# Altium footprint library Xtal_PcbLib.PcbLib: 8 footprints
Each footprint in its own frame and in the unit in brackets; x right, y up, seen from the top. Pads: shape width x height; smd on the part's side, far side on the other; paste and mask are expansions set on the pad; w line width, h text height; cw(c..) or ccw(c..) is an arc to the next point about the centre after c.
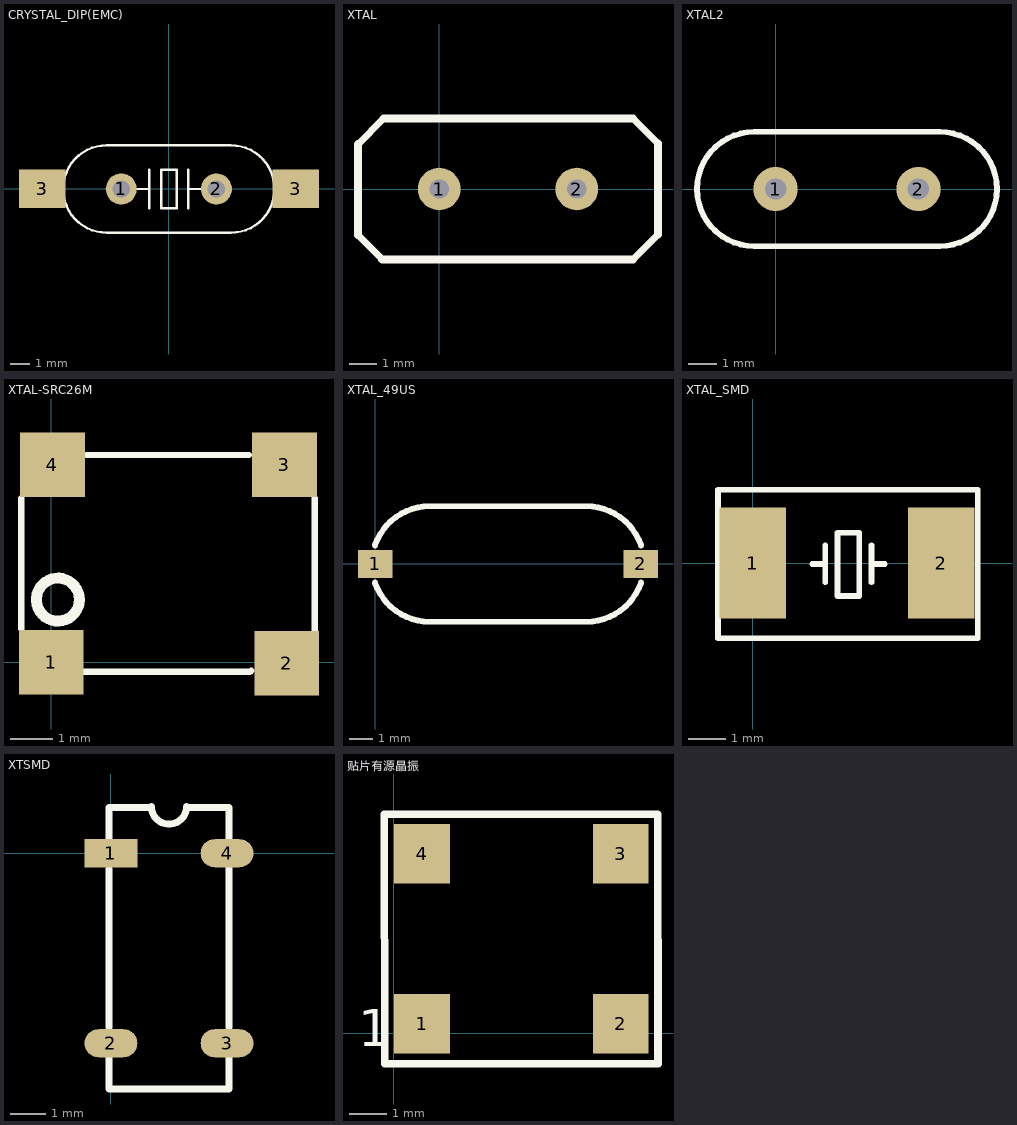
[diagram p0: the footprints below, top view; thin cyan lines are the x and y axes]

## CRYSTAL_DIP(EMC) [mm]
pads (4):
  round 1.6 hole 0.9: 1(-2.459,-0.009) 2(2.441,-0.009)
  rect 2.4x2 smd: 3(-6.528,0) 3(6.528,0)
Top Overlay:
  lines w0.127: -1.709,-0.009 -1.009,-0.009 ; -1.009,-1.009 -1.009,0.991 ; 0.991,-1.009 0.991,0.991 ; 0.991,-0.009 1.691,-0.009 ; -3.209,-2.259 cw(c-3.209,-0.009) -3.209,2.241 3.191,2.241 cw(c3.191,-0.009) 3.191,-2.259 -3.209,-2.259 ; -0.409,-1.009 -0.409,0.991 0.391,0.991 0.391,-1.009 -0.409,-1.009

## XTAL [mil]
pads (2):
  round 62 hole 28: 1(0,0) 2(200,0)
Top Overlay:
  lines w10: -118.11,-66.93 -82.68,-102.36 ; -118.11,65.04 -80.79,102.36 ; 281.73,-102.36 318.11,-65.98 ; 281.73,102.36 318.11,65.98
  lines w12: -118.11,-66.93 -118.11,65.04 ; -82.68,-102.36 281.73,-102.36 ; -80.79,102.36 281.73,102.36 ; 318.11,-65.98 318.11,65.98

## XTAL2 [mil]
pads (2):
  round 62 hole 30: 1(0,0) 2(200,0)
Top Overlay:
  lines w8: -30,-80 cw(c-30,0) -30,80 230,80 cw(c230,0) 230,-80 -30,-80

## XTAL-SRC26M [mil]
pads (4):
  rect 60x60 smd: 1(0,0) 2(218,-1) 3(216,183) 4(1,183)
Top Overlay:
  circle w10: c6.08,58 r19.92
  lines w6: -28,31 -28,152 ; 30,-9 184,-9 185,-8 ; 33,192 183,192 ; 244,28 244,152

## XTAL_49US [mm]
pads (2):
  rect 1.5x1.2 smd: 1(0,0) 2(11.5,0)
Top Overlay:
  lines w0.254: -0.015,-0.809 ccw(c2.35,0) 2.35,-2.5 ; -0.015,0.809 cw(c2.35,0) 2.35,2.5 9.15,2.5 cw(c9.15,0) 11.515,0.809 ; 2.345,-2.5 9.15,-2.5 ccw(c9.15,0) 11.515,-0.809

## XTAL_SMD [mm]
pads (2):
  rect 1.8x3 smd: 1(0,0) 2(5.08,0)
Top Overlay:
  lines w0.152: 1.6,-0.025 1.956,-0.025 ; 1.956,-0.517 1.956,0.483 ; 3.2,-0.517 3.2,0.483 ; 3.2,-0.025 3.556,-0.025 ; -0.935,-2.025 -0.935,1.975 6.065,1.975 6.065,-2.025 -0.935,-2.025 ; 2.286,-0.889 2.286,0.813 2.87,0.813 2.87,-0.889 2.286,-0.889

## XTSMD [mm]
pads (4):
  rect 1.5x0.8 smd: 1(0,0)
  oval 1.5x0.8 smd: 2(0,-5.4) 3(3.3,-5.4) 4(3.3,0)
Top Overlay:
  lines w0.2: -0.05,-5.8 -0.05,-6.7 3.35,-6.7 ; -0.05,-4.95 -0.05,-0.45 ; -0.05,0.425 -0.05,1.3 1.15,1.3 ; 1.15,1.325 ccw(c1.65,1.325) 2.15,1.325 ; 2.15,1.3 3.35,1.3 3.35,0.425 ; 3.34,-6.7 3.35,-6.7 ; 3.35,-5.8 3.35,-6.7 ; 3.35,-4.95 3.35,-0.375

## 贴片有源晶振 [mm]
pads (4):
  rect 1.5x1.6 smd: 1(0.762,0.254) 2(6.096,0.254) 3(6.096,4.826) 4(0.762,4.826)
Top Overlay:
  lines w0.203: -0.25,5.89 -0.24,-0.82 7.098,-0.81 7.09,5.89 -0.25,5.89
  text "1" at -0.96,-0.35 h1